# EAGLE library part NRF905 (library IC_Wireless-RF)
Single chip 433/868/915MHz Transceiver Datasheet <https://infocenter.nordicsemi.com/pdf/nRF905_PS_v1.5.pdf>
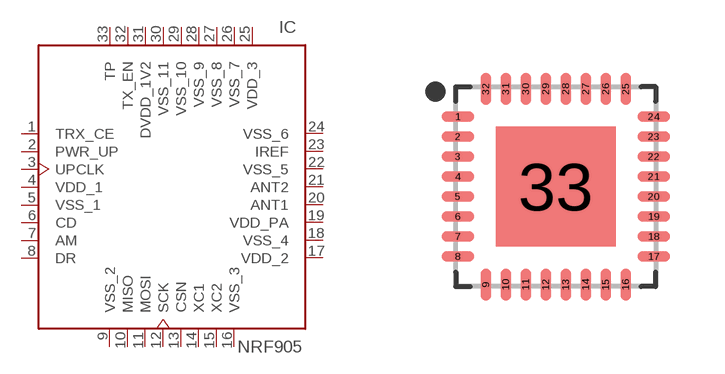
[diagram p7: symbol with the pads of QFN50P500X500X100-33T300N; footprint QFN50P500X500X100-33T300N]

Designator prefix IC

## NRF905 (CATEGORY: INTERFACE IC; DESCRIPTION: RF Transceiver 1.9-3.6V 433/868/ 915MHz TRNSCVR; MANUFACTURER: Nordic Semiconductor; MPN: NRF905; OPERATING_TEMPERATURE: -40C to 85C; ROHS_COMPLIANT: COMPLIANT; SERIES: NRF9; SUB_CATEGORY: Wireless & RF Integrated Circuits; TYPE: RF Transceiver; VALUE: NRF905)  [QFN50P500X500X100-33T300N]
1  TRX_CE  in
2  PWR_UP  in
3  UPCLK  out
4  VDD_1  pwr
5  VSS_1  pwr
6  CD  out
7  AM  out
8  DR  out
9  VSS_2  pwr
10  MISO  out
11  MOSI  in
12  SCK
13  CSN
14  XC1  in
15  XC2  out
16  VSS_3  pwr
17  VDD_2  pwr
18  VSS_4  pwr
19  VDD_PA  pwr
20  ANT1
21  ANT2
22  VSS_5  pwr
23  IREF  in
24  VSS_6  pwr
25  VDD_3  pwr
26  VSS_7  pwr
27  VSS_8  pwr
28  VSS_9  pwr
29  VSS_10  pwr
30  VSS_11  pwr
31  DVDD_1V2
32  TX_EN
33  TP  pwr

## Footprint QFN50P500X500X100-33T300N (pad centres in mm)
32-QFN, 0.50 mm pitch, 5.00 X 5.00 X 1.00 mm body, 3.00 X 3.00 mm thermal pad 32-pin QFN package with 0.50 mm pitch with body size 5.00 X 5.00 X 1.00 mm and thermal pad size 3.00 X 3.00 mm
smd 0.811 x 0.264: 1 -2.451,1.75; 2 -2.451,1.25; 3 -2.451,0.75; 4 -2.451,0.25; 5 -2.451,-0.25; 6 -2.451,-0.75; 7 -2.451,-1.25; 8 -2.451,-1.75; 17 2.451,-1.75; 18 2.451,-1.25; 19 2.451,-0.75; 20 2.451,-0.25; 21 2.451,0.25; 22 2.451,0.75; 23 2.451,1.25; 24 2.451,1.75
smd 0.264 x 0.811: 9 -1.75,-2.451; 10 -1.25,-2.451; 11 -0.75,-2.451; 12 -0.25,-2.451; 13 0.25,-2.451; 14 0.75,-2.451; 15 1.25,-2.451; 16 1.75,-2.451; 25 1.75,2.451; 26 1.25,2.451; 27 0.75,2.451; 28 0.25,2.451; 29 -0.25,2.451; 30 -0.75,2.451; 31 -1.25,2.451; 32 -1.75,2.451
smd 3 x 3: 33 0,0